# Altium footprint library diodes_semiconductors.PcbLib: 5 footprints
Each footprint in its own frame and in the unit in brackets; x right, y up, seen from the top. Pads: shape width x height; smd on the part's side, far side on the other; paste and mask are expansions set on the pad; w line width, h text height; cw(c..) or ccw(c..) is an arc to the next point about the centre after c.
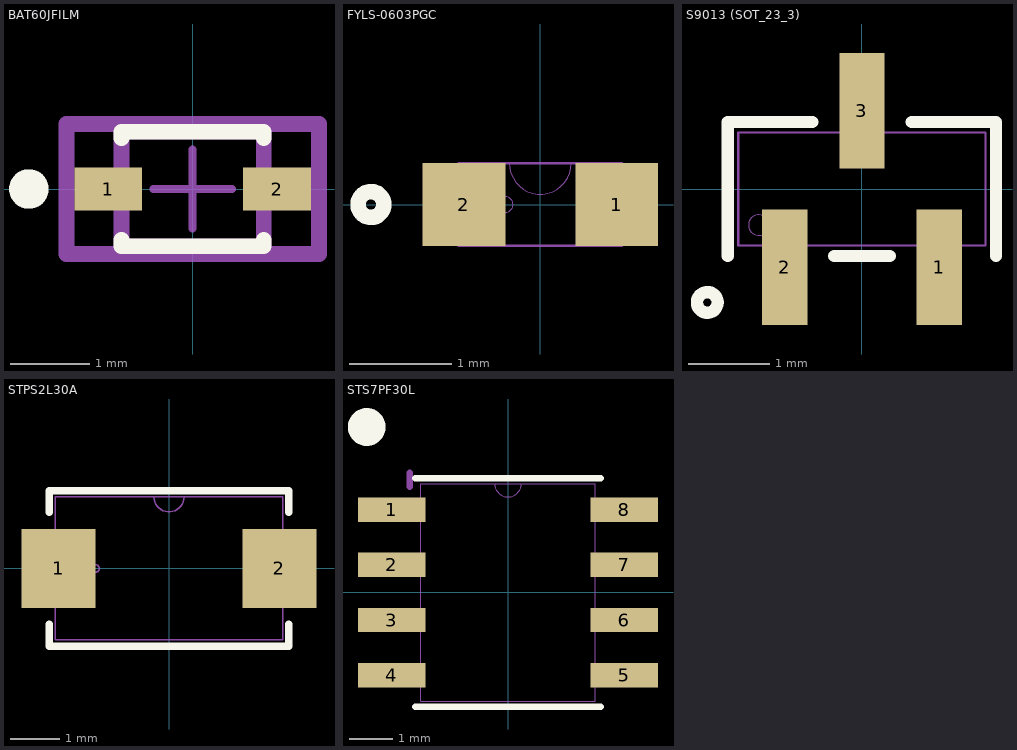
[diagram p0: the footprints below, top view; thin cyan lines are the x and y axes]

## BAT60JFILM [mm]
pads (2):
  rect 0.86x0.54 smd paste+0 mask+0: 1(-1.07,0) 2(1.07,0)
Top Overlay:
  circle w0.25: c-2.075,0 r0.125
  lines w0.2: -0.9,-0.645 -0.9,-0.725 0.9,-0.725 0.9,-0.645 ; -0.9,0.645 -0.9,0.725 0.9,0.725 0.9,0.645
Top 3D Body:
  lines w0.2: -0.9,-0.725 -0.9,0.725 0.9,0.725 0.9,-0.725 -0.9,-0.725
Top Assembly:
  lines w0.2: -1.6,-0.825 -1.6,0.825 1.6,0.825 1.6,-0.825 -1.6,-0.825
Top Courtyard:
  lines w0.2: -1.6,-0.825 -1.6,0.825 1.6,0.825 1.6,-0.825 -1.6,-0.825
Top Component Center:
  lines w0.1: -0.5,0 0.5,0 ; 0,-0.5 0,0.5
3D body "Diode_STMicroelectronics_BAT60JFILM_eec.STEP": height 0.25, standoff 0, extent -1.6,-0.825 1.6,0.825

## FYLS-0603PGC [mil]
pads (2):
  rect 32x32 smd paste+0 mask+0: 1(29.53,0) 2(-29.53,0)
Top Overlay:
  circle w6: c-65.53,0 r5
Mechanical 13:
  circle w0: c-13.53,0 r3
  lines w0: -12,16 ccw(c0,16) 12,16
  lines w1: -31.5,-16 -31.5,16 31.5,16 31.5,-16 -31.5,-16
3D body "LED_SM0603_BIV.step": height 32.09, standoff 0, extent -31.5,-15.98 31.5,15.98

## S9013 (SOT_23_3) [mil]
pads (3):
  rect 22x56 smd paste+0 mask+0: 1(37.5,-38) 2(-37.5,-38) 3(0,38)
Top Overlay:
  circle w6: c-75,-55 r5
  lines w6: -65,-32.5 -65,32.5 -24.1,32.5 ; -13.4,-32.5 13.4,-32.5 ; 24.1,32.5 65,32.5 65,-32.5
Mechanical 13:
  circle w0: c-50,-17.5 r5
  lines w1: -60,-27.5 60,-27.5 60,27.5 -60,27.5 -60,-27.5 ; -47.5,-52 -47.5,-27.5 -27.5,-27.5 -27.5,-52 -47.5,-52 ; -10,27.5 10,27.5 10,52 -10,52 -10,27.5 ; 27.5,-52 27.5,-27.5 47.5,-27.5 47.5,-52 27.5,-52
3D body "SOT-23_ONS.step": height 44.09, standoff 0, extent -60,-52.01 60,52.01

## STPS2L30A [mil]
pads (2):
  rect 59x63 smd paste+0 mask+0: 1(-88,0) 2(88,0)
Top Overlay:
  lines w6: -95.5,-44.6 -95.5,-62 95.5,-62 95.5,-44.6 ; -95.5,44.6 -95.5,62 95.5,62 95.5,44.6
Mechanical 13:
  circle w1: c-58.5,0 r3
  lines w1: -12,57 ccw(c0,57) 12,57 ; -90.5,-57 90.5,-57 90.5,57 -90.5,57 -90.5,-57
3D body "CR_SMA-FLAT-NOTCH_STM.step": height 43.11, standoff 0, extent -105.51,-57.01 105.51,57.01

## STS7PF30L [mil]
pads (8):
  rect 61x22 smd paste+0 mask+0: 1(-105.5,75) 2(-105.5,25) 3(-105.5,-25) 4(-105.5,-75) 5(105.5,-75) 6(105.5,-25) 7(105.5,25) 8(105.5,75)
Top Overlay:
  circle w20: c-128,150 r7.07
  lines w6: -84,-103.5 84,-103.5 ; -84,103.5 84,103.5
Mechanical 13:
  lines w0: -12,98.5 ccw(c0,98.5) 12,98.5
  lines w1: -122,-85 -79,-85 -79,-65 -122,-65 -122,-85 ; -122,-35 -79,-35 -79,-15 -122,-15 -122,-35 ; -122,15 -79,15 -79,35 -122,35 -122,15 ; -122,65 -79,65 -79,85 -122,85 -122,65 ; -79,-98.5 -79,98.5 79,98.5 79,-98.5 -79,-98.5 ; 79,-85 122,-85 122,-65 79,-65 79,-85 ; 79,-35 122,-35 122,-15 79,-15 79,-35 ; 79,15 122,15 122,35 79,35 79,15 ; 79,65 122,65 122,85 79,85 79,65
  text "*" at -76.5,45.5 h50
Top Courtyard:
  lines w6: -89,96 -89,108.5
3D body "SO-8_STM.step": height 69.09, standoff 0, extent -122.01,-98.5 122.01,98.5